# Altium schematic symbol library SCH - DRIVER - LED - TI TLC5928_DBQ_24.SchLib: 1 symbol
Pins are listed as number, name and electrical type; pins without a type are passive.

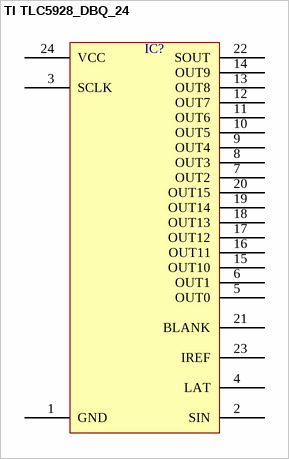
[diagram p0: symbol TI TLC5928_DBQ_24]

## TI TLC5928_DBQ_24
designator IC?  (value not drawn)
pins: 1 GND, 2 SIN, 3 SCLK, 4 LAT, 5 OUT0, 6 OUT1, 7 OUT2, 8 OUT3, 9 OUT4, 10 OUT5, 11 OUT6, 12 OUT7, 13 OUT8, 14 OUT9, 15 OUT10, 16 OUT11, 17 OUT12, 18 OUT13, 19 OUT14, 20 OUT15, 21 BLANK, 22 SOUT, 23 IREF, 24 VCC